# EAGLE library part JR223B (library ic)
单键电容式触摸按键IC
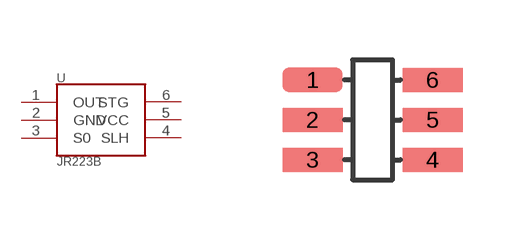
[diagram p1: symbol with the pads of SSOP6-P-118-0.6A; footprint SSOP6-P-118-0.6A]

Designator prefix U

## JR223B  [SSOP6-P-118-0.6A]
1  OUT
2  GND
3  S0
4  SLH
5  VCC
6  STG

## Footprint SSOP6-P-118-0.6A (pad centres in mm)
SSOP6-P-118-0.6A
smd 1.5 x 0.6: 1 0,0; 2 0,-1; 3 0,-2; 4 3,-2; 5 3,-1; 6 3,0